# Altium schematic symbol library before-disk.SchLib: 1 symbol
Pins are listed as number, name and electrical type; pins without a type are passive.

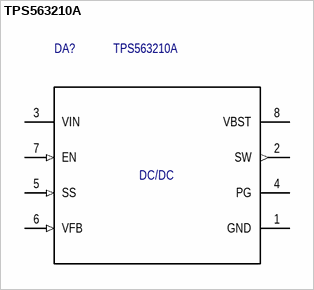
[diagram p0: symbol TPS563210A]

## TPS563210A
designator DA?
Texas Instruments TPS563210A synchronous buck regulator, DDF 8-pin; custom GOST-style schematic symbol; OrderingSuffix: DDFR/DDFT packaging not selected; Manufacturer: Texas Instruments; MPN: TPS563210A; Package: DDF; Datasheet: https://www.ti.com/lit/ds/symlink/tps563210a.pdf; Source: TI datasheet pin functions page 3; user-requested native symbol
footprint SOT65P280X110-8N
pins: 1 GND (power), 2 SW (out), 3 VIN (power), 4 PG (oc), 5 SS (in), 6 VFB (in), 7 EN (in), 8 VBST (power)
text: DC/DC